# EAGLE library part S4EB-5V (library bontor)
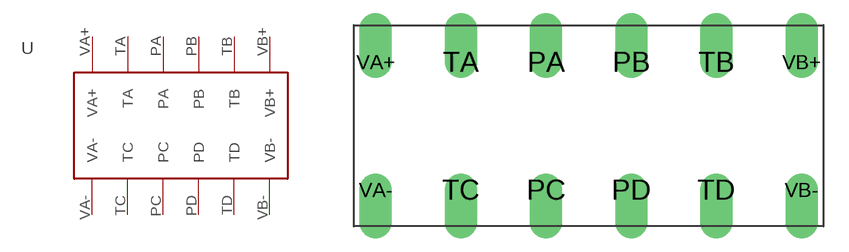
[diagram p15: symbol with the pads of S4EB-5V; footprint S4EB-5V]

Designator prefix -

## S4EB-5V  [S4EB-5V]
PA  PA
PB  PB
PC  PC
PD  PD
TA  TA
TB  TB
TC  TC
TD  TD
VA+  VA+
VA-  VA-
VB+  VB+
VB-  VB-

## Footprint S4EB-5V (pad centres in mm)
drill 1.3 offset: PA -2.54,3.81; PB 2.54,3.81; PC -2.54,-3.81; PD 2.54,-3.81; TA -7.62,3.81; TB 7.62,3.81; TC -7.62,-3.81; TD 7.62,-3.81; VA+ -12.7,3.81; VA- -12.7,-3.81; VB+ 12.7,3.81; VB- 12.7,-3.81